# Altium schematic symbol library OperationalAmplifiers.SchLib: 7 symbols
Pins are listed as number, name and electrical type; pins without a type are passive.

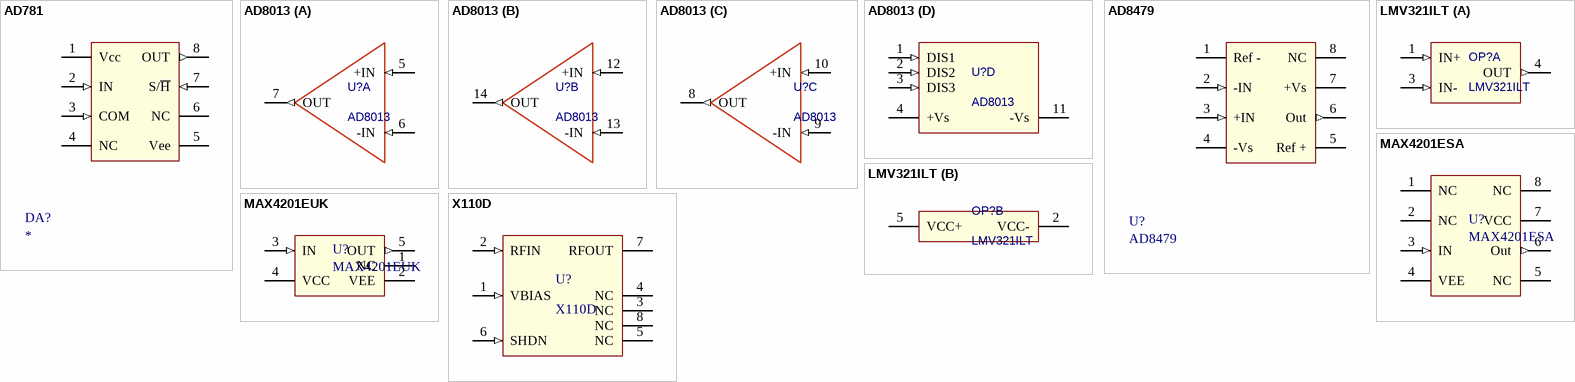
[diagram p0: symbols AD781 to X110D]

## AD781
designator DA?
footprint DIP-8
pins: 1 Vcc (power), 2 IN (in), 3 COM (in), 4 NC, 5 Vee (power), 6 NC, 7 S/~{H} (in), 8 OUT (out)

## AD8013
designator U?
footprint D014_N (14-Pin Small Outline Integrated Circuit 1.27 mm Pitch, IPC Medium Density)
part A pins: 5 +IN (in), 6 -IN (in), 7 OUT (out)
part B pins: 12 +IN (in), 13 -IN (in), 14 OUT (out)
part C pins: 8 OUT (out), 9 -IN (in), 10 +IN (in)
part D pins: 1 DIS1 (in), 2 DIS2 (in), 3 DIS3 (in), 4 +Vs (power), 11 -Vs (power)

## AD8479
designator U?
footprint ADI-R-8_N (SOIC, 8-Leads, Body 4.9x3.9mm, Pitch 1.27mm, IPC Medium Density)
pins: 1 Ref -, 2 -IN (in), 3 +IN (in), 4 -Vs (power), 5 Ref +, 6 Out (out), 7 +Vs (power), 8 NC

## LMV321ILT
designator OP?
footprint SOT23-5 (STMicroelectronics)
part A pins: 1 IN+ (in), 3 IN- (in), 4 OUT (out)
part B pins: 2 VCC- (power), 5 VCC+ (power)

## MAX4201ESA
designator U?
Ultra-High-Speed, Low-Noise, Low-Power, / SOT23 Open-Loop Buffers.
footprint ADI-R-8_N (SOIC, 8-Leads, Body 4.9x3.9mm, Pitch 1.27mm, IPC Medium Density)
pins: 1 NC, 2 NC, 3 IN (in), 4 VEE (power), 5 NC, 6 Out (out), 7 VCC (power), 8 NC

## MAX4201EUK
designator U?
Ultra-High-Speed, Low-Noise, Low-Power, / SOT23 Open-Loop Buffers.
footprint SOT23-5 (DBV0005A, DS90LT012A) (SOT23, 5-Leads, Body 2.90x2.80mm, Pitch 0.95mm, IPC Medium Density)
pins: 1 NC, 2 VEE (power), 3 IN (in), 4 VCC (power), 5 OUT (out)

## X110D
designator U?
footprint DFN8L (DFN, 8-Leads, Body 2.00x2.00mm, Pitch 0.50mm, Thermal Pad 1.60x0.80mm, IPC Medium Density)
pins: 1 VBIAS (in) "Bias current control", 2 RFIN (in) "RF input externally connected to a blocking capacitor.", 3 NC "No connection, PCB grounded.", 4 NC "No connection, PCB grounded.", 5 NC "No connection, PCB grounded.", 6 SHDN (in) "OFF control to operate at low level and turn off at high level.", 7 RFOUT (power) "RF output externally connected to a blocking capacitor.", 8 NC "No connection, PCB grounded."